# Altium footprint library Connecteurs_JST_PH.PcbLib: 3 footprints
Each footprint in its own frame and in the unit in brackets; x right, y up, seen from the top. Pads: shape width x height; smd on the part's side, far side on the other; paste and mask are expansions set on the pad; w line width, h text height; cw(c..) or ccw(c..) is an arc to the next point about the centre after c.
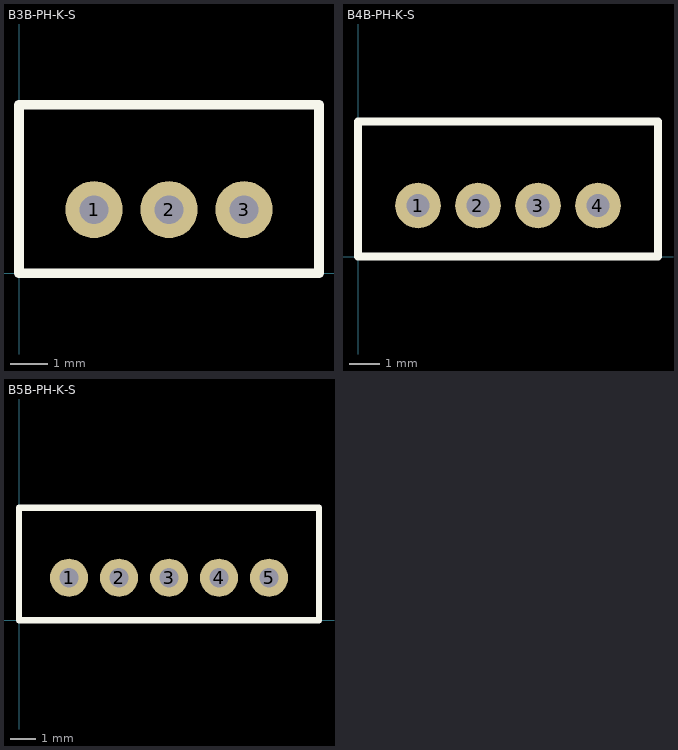
[diagram p0: the footprints below, top view; thin cyan lines are the x and y axes]

## B3B-PH-K-S [mil] "Connecteur JST série PH 3 broches"
pads (3):
  round 60 hole 30: 1(78.74,66.93) 2(157.48,66.93) 3(236.22,66.93)
Top Overlay:
  lines w10: 0,0 0,177.17 314.96,177.17 314.96,0 ; 1.97,0 312.99,0

## B4B-PH-K-S [mil] "Connecteur JST série PH 4 broches"
pads (4):
  round 60 hole 30: 1(78.74,66.93) 2(157.48,66.93) 3(236.22,66.93) 4(314.96,66.93)
Top Overlay:
  lines w10: 0,0 0,177.17 393.7,177.17 393.7,0 1.97,0

## B5B-PH-K-S [mil] "Connecteur JST série PH 5 broches"
pads (5):
  round 60 hole 30: 1(78.74,66.93) 2(157.48,66.93) 3(236.22,66.93) 4(314.96,66.93) 5(393.7,66.93)
Top Overlay:
  lines w10: 0,0 0,177.17 472.44,177.17 472.44,0 1.97,0